# Altium footprint library SOARFootprints.PcbLib: 56 footprints (part 3 of 4)
Each footprint in its own frame and in the unit in brackets; x right, y up, seen from the top. Pads: shape width x height; smd on the part's side, far side on the other; paste and mask are expansions set on the pad; w line width, h text height; cw(c..) or ccw(c..) is an arc to the next point about the centre after c.
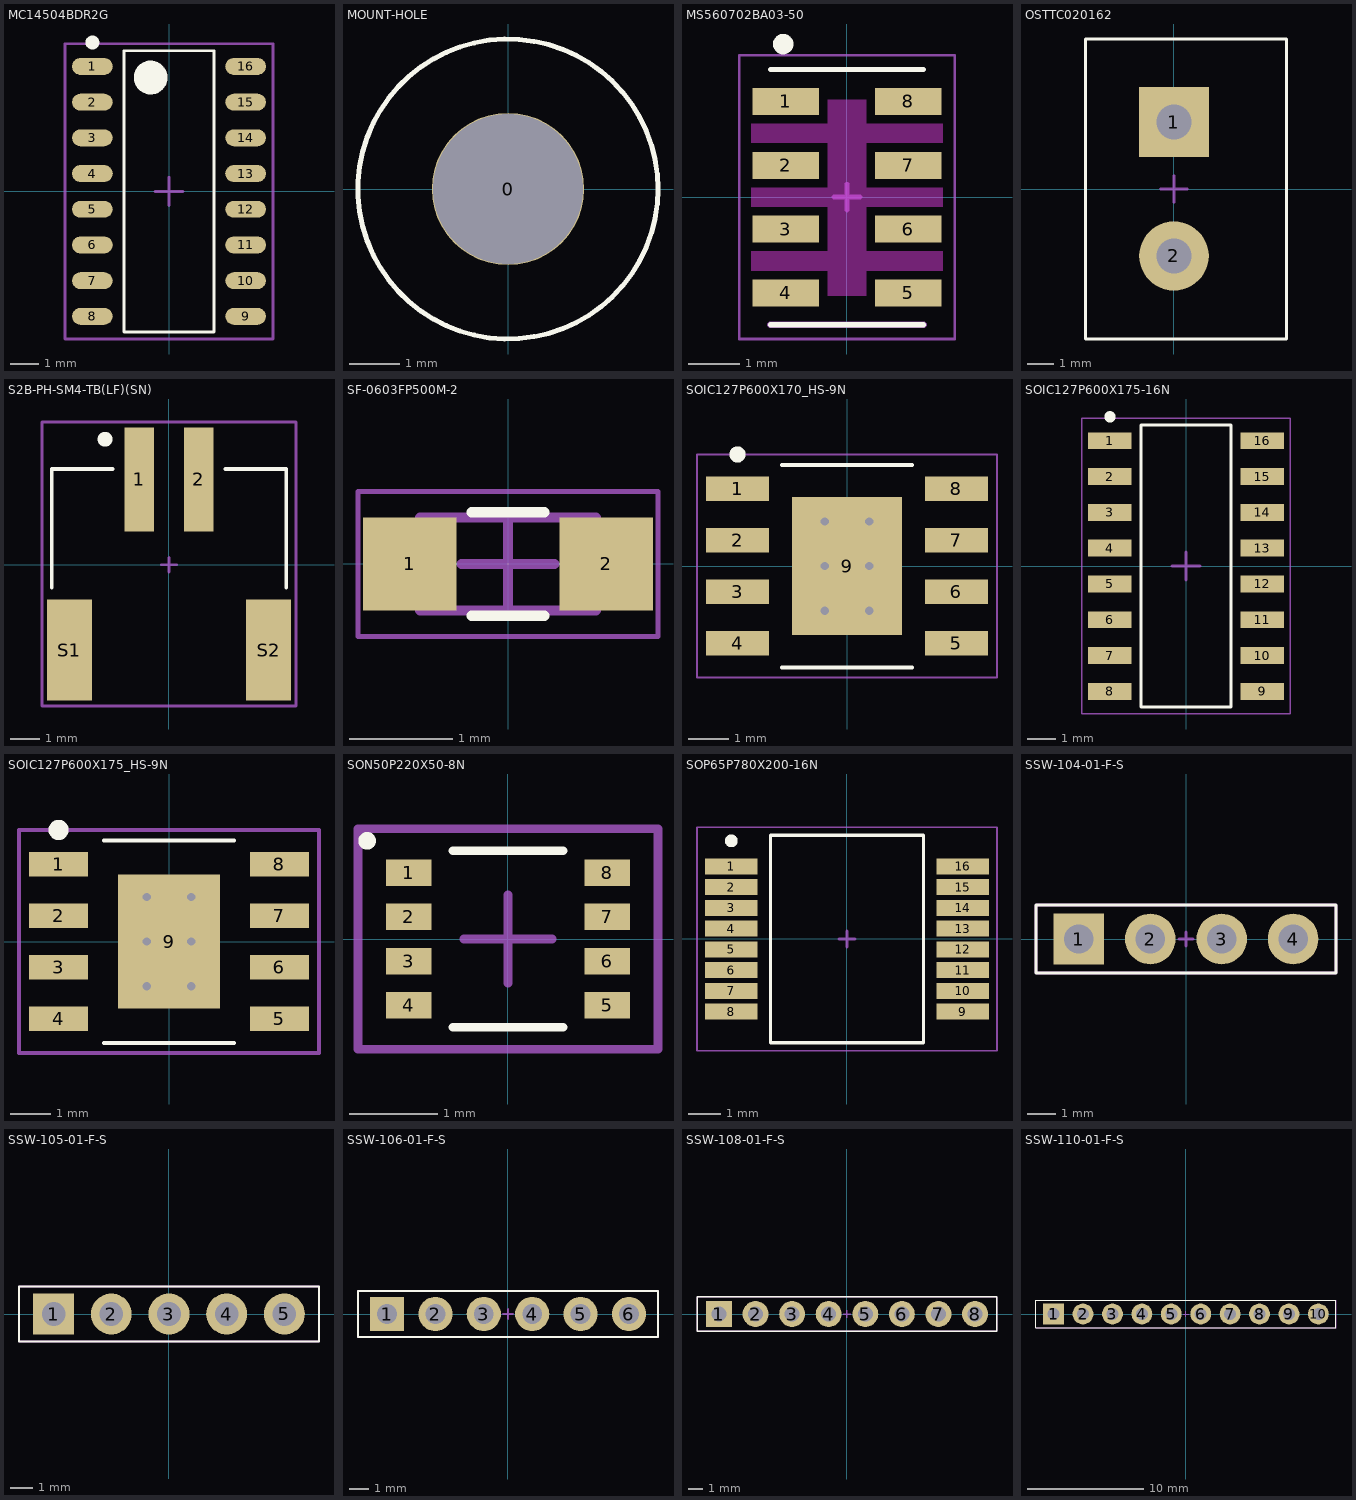
[diagram p2: the footprints below, top view; thin cyan lines are the x and y axes]

## MC14504BDR2G [mm] "SOIC, 16-Leads, Body 9.90x3.90mm, Pitch 1.27mm, IPC Medium Density"
height 1.75
pads (16):
  oval 1.45x0.6 smd: 1(-2.725,4.445) 2(-2.725,3.175) 3(-2.725,1.905) 4(-2.725,0.635) 5(-2.725,-0.635) 6(-2.725,-1.905) 7(-2.725,-3.175) 8(-2.725,-4.445) 9(2.725,-4.445) 10(2.725,-3.175) 11(2.725,-1.905) 12(2.725,-0.635) 13(2.725,0.635) 14(2.725,1.905) 15(2.725,3.175) 16(2.725,4.445)
Top Overlay:
  circle w0.25: c-2.725,5.295 r0.125
  circle w0.6: c-0.65,4.05 r0.3
  lines w0.1: -1.6,-5 -1.6,5 1.6,5 1.6,-5 -1.6,-5
Top Courtyard (Mech15):
  lines w0.1: -0.5,0 0.5,0 ; 0,-0.5 0,0.5 ; -3.7,-5.25 -3.7,5.25 3.7,5.25 3.7,-5.25 -3.7,-5.25
3D body "MC14504BDR2G.step": height 1.75, standoff 0, extent -3,-5 3,5

## MOUNT-HOLE [mil] "#4, 0.116in"
pads (1):
  round 120 hole 118 unplated mask+1.97: 0(0,0)
Top Overlay:
  circle w3.94: c0,0 r118.11
3D body: height 10, standoff -338.58, extent 0,127.95 0,127.95

## MS560702BA03-50 [mm]
pads (8):
  rect 1.31x0.53 smd mask+0.05: 1(-1.2,1.875) 2(-1.2,0.625) 3(-1.2,-0.625) 4(-1.2,-1.875) 5(1.2,-1.875) 6(1.2,-0.625) 7(1.2,0.625) 8(1.2,1.875)
Top Overlay:
  circle w0.2: c-1.25,3 r0.1
  lines w0.1: -1.5,-2.5 1.5,-2.5 ; -1.5,2.5 1.5,2.5
Keep-Out Layer:
  region: -0.375,1.905 0.381,1.905 0.381,-1.934 -0.375,-1.934
  region: -1.877,-1.062 1.875,-1.062 1.875,-1.439 -1.877,-1.439
  region: -1.876,0.188 1.875,0.188 1.875,-0.188 -1.876,-0.188
  region: -1.877,1.438 1.875,1.438 1.875,1.063 -1.877,1.063
Top Component Outline:
  lines w0.05: -2.11,-2.78 -2.11,2.78 2.11,2.78 2.11,-2.78 -2.11,-2.78
  lines w0.1: -0.25,0 0.25,0 ; 0,-0.25 0,0.25
  lines w0.127: -1.5,-2.5 1.5,-2.5
3D body "MS561101BA03-50--3DModel-STEP-56544.STEP": height 1, standoff 0, extent -1.5,-2.5 1.5,2.5

## OSTTC020162 [mm]
pads (2):
  rect 2.6x2.6 hole 1.3: 1(0,2.5)
  round 2.6 hole 1.3: 2(0,-2.5)
Top Overlay:
  lines w0.1: -3.3,-5.6 4.2,-5.6 4.2,5.6 0,5.6 -3.3,5.6 -3.3,-5.6
Top Component Outline:
  lines w0.1: -0.5,0 0.5,0 ; 0,-0.5 0,0.5
3D body: height 10, standoff 0, extent -3.25,-5.5 4.25,5.5

## S2B-PH-SM4-TB(LF)(SN) [mm] "CONN HEADER SMD R/A 2POS 2MM"
height 5.5
pads (4):
  rect 1x3.5 smd: 1(-1,2.875) 2(1,2.875)
  rect 1.5x3.4 smd: S1(-3.35,-2.875) S2(3.35,-2.875)
Top Overlay:
  circle w0.3: c-2.15,4.225 r0.1
  circle w0.3: c-2.15,4.225 r0.1
  circle w0.3: c-2.15,4.225 r0.1
  lines w0.127: -3.95,-0.775 -3.95,3.225 -1.9,3.225 ; 1.9,3.225 3.95,3.225 3.95,-0.775
Top Component Outline:
  lines w0.1: -0.25,0 0.25,0 ; 0,-0.25 0,0.25 ; -4.275,-4.75 4.275,-4.75 4.275,4.8 -4.275,4.8 -4.275,-4.75
3D body "S2B-PH-SM4-TB(LF)(SN)--3DModel-STEP-56544.STEP": height 5.6, standoff 0, extent -3.95,-4.325 3.95,4.275

## SF-0603FP500M-2 [mm] "FUSE BOARD MOUNT 5A 32VDC 0603"
height 0.18
pads (2):
  rect 0.9x0.9 smd mask+0.05: 1(-0.95,0) 2(0.95,0)
Top Overlay:
  lines w0.1: -0.35,-0.5 0.35,-0.5 ; -0.35,0.5 0.35,0.5
Top Component Outline:
  lines w0.05: -1.45,-0.7 -1.45,0.7 1.45,0.7 1.45,-0.7 -1.45,-0.7
  lines w0.1: -0.45,0 0.45,0 ; 0,-0.45 0,0.45 ; -0.85,-0.45 0.85,-0.45 0.85,0.45 -0.85,0.45 -0.85,-0.45
3D body "SF-0603FPxxxM.stp": height 0.9, standoff 0, extent -0.8,-0.45 0.8,0.45

## SOIC127P600X170_HS-9N [mm] "SOIC, 8-Leads, Body 4.90x3.90mm, Pitch 1.27mm, Thermal Pad 3.40x2.71mm, IPC Medium Density"
height 1.7
pads (9):
  rect 1.55x0.6 smd: 1(-2.7,1.905) 2(-2.7,0.635) 3(-2.7,-0.635) 4(-2.7,-1.905) 5(2.7,-1.905) 6(2.7,-0.635) 7(2.7,0.635) 8(2.7,1.905)
  rect 2.71x3.4 smd: 9(0,0)
via 0.55,-1.1 diameter 0.5 hole 0.2
via -0.55,-1.1 diameter 0.5 hole 0.2
via 0.55,0 diameter 0.5 hole 0.2
via -0.55,0 diameter 0.5 hole 0.2
via 0.55,1.1 diameter 0.5 hole 0.2
via -0.55,1.1 diameter 0.5 hole 0.2
Top Overlay:
  circle w0.2: c-2.7,2.755 r0.1
  lines w0.1: -1.6,-2.5 1.6,-2.5 ; -1.6,2.5 1.6,2.5
Top Component Outline:
  lines w0.05: -3.7,-2.75 -3.7,2.75 3.7,2.75 3.7,-2.75 -3.7,-2.75
  lines w0.1: -0.25,0 0.25,0 ; 0,-0.25 0,0.25
3D body "SOIC127P600X170_HS-9N.step": height 1.7, standoff 0, extent -3,-2.5 3,2.5

## SOIC127P600X175-16N [mm] "SOIC, 16-Leads, Body 9.90x3.90mm, Pitch 1.27mm, IPC Medium Density"
height 1.75
pads (16):
  rect 1.55x0.6 smd: 1(-2.7,4.445) 2(-2.7,3.175) 3(-2.7,1.905) 4(-2.7,0.635) 5(-2.7,-0.635) 6(-2.7,-1.905) 7(-2.7,-3.175) 8(-2.7,-4.445) 9(2.7,-4.445) 10(2.7,-3.175) 11(2.7,-1.905) 12(2.7,-0.635) 13(2.7,0.635) 14(2.7,1.905) 15(2.7,3.175) 16(2.7,4.445)
Top Overlay:
  circle w0.2: c-2.7,5.295 r0.1
  lines w0.1: -1.6,-5 -1.6,5 1.6,5 1.6,-5 -1.6,-5
Top Component Outline:
  lines w0.05: -3.7,-5.25 -3.7,5.25 3.7,5.25 3.7,-5.25 -3.7,-5.25
  lines w0.1: -0.5,0 0.5,0 ; 0,-0.5 0,0.5
3D body "SOIC127P600X175-16N.step": height 1.75, standoff 0, extent -3,-5 3,5

## SOIC127P600X175_HS-9N [mm] "SOIC, 8-Leads, Body 4.90x3.90mm, Pitch 1.27mm, Thermal Pad 3.30x2.51mm, IPC Medium Density"
height 1.75
pads (9):
  rect 1.45x0.6 smd: 1(-2.725,1.905) 2(-2.725,0.635) 3(-2.725,-0.635) 4(-2.725,-1.905) 5(2.725,-1.905) 6(2.725,-0.635) 7(2.725,0.635) 8(2.725,1.905)
  rect 2.51x3.3 smd: 9(0,0)
via 0.55,-1.1 diameter 0.5 hole 0.2
via -0.55,-1.1 diameter 0.5 hole 0.2
via 0.55,0 diameter 0.5 hole 0.2
via -0.55,0 diameter 0.5 hole 0.2
via 0.55,1.1 diameter 0.5 hole 0.2
via -0.55,1.1 diameter 0.5 hole 0.2
Top Overlay:
  circle w0.25: c-2.725,2.755 r0.125
  lines w0.1: -1.6,-2.5 1.6,-2.5 ; -1.6,2.5 1.6,2.5
Top Courtyard (Mech15):
  lines w0.1: -0.5,0 0.5,0 ; 0,-0.5 0,0.5 ; -3.7,-2.75 3.7,-2.75 3.7,2.75 -3.7,2.75 -3.7,-2.75
3D body "SOIC127P600X175_HS-9N.step": height 1.75, standoff 0, extent -3,-2.5 3,2.5

## SON50P220X50-8N [mm] "SON, 8-Leads, Body 1.97x2.23mm, Pitch 0.50mm, IPC Medium Density"
height 0.5
pads (8):
  rect 0.52x0.3 smd mask+0.05: 1(-1.125,0.75) 2(-1.125,0.25) 3(-1.125,-0.25) 4(-1.125,-0.75) 5(1.125,-0.75) 6(1.125,-0.25) 7(1.125,0.25) 8(1.125,0.75)
Top Overlay:
  circle w0.1: c-1.597,1.112 r0.05
  lines w0.1: -0.625,-1 0.625,-1 ; -0.625,1 0.625,1
Top Component Outline:
  lines w0.1: -0.5,0 0.5,0 ; 0,-0.5 0,0.5 ; -1.7,-1.25 -1.7,1.25 1.7,1.25 1.7,-1.25 -1.7,-1.25
3D body "SON50P220X50-8N.step": height 0.5, standoff 0, extent -1.136,-1 1.136,1

## SOP65P780X200-16N [mm] "SOP, 16-Leads, Body 6.20x5.30mm, Pitch 0.65mm, IPC Medium Density"
height 2
pads (16):
  rect 1.65x0.5 smd mask+0.05: 1(-3.625,2.275) 2(-3.625,1.625) 3(-3.625,0.975) 4(-3.625,0.325) 5(-3.625,-0.325) 6(-3.625,-0.975) 7(-3.625,-1.625) 8(-3.625,-2.275) 9(3.625,-2.275) 10(3.625,-1.625) 11(3.625,-0.975) 12(3.625,-0.325) 13(3.625,0.325) 14(3.625,0.975) 15(3.625,1.625) 16(3.625,2.275)
Top Overlay:
  circle w0.2: c-3.625,3.075 r0.1
  lines w0.1: -2.4,-3.25 2.4,-3.25 2.4,3.25 -2.4,3.25 -2.4,-3.25
Top Component Outline:
  lines w0.05: -4.7,-3.5 4.7,-3.5 4.7,3.5 -4.7,3.5 -4.7,-3.5
  lines w0.1: -0.25,0 0.25,0 ; 0,-0.25 0,0.25
3D body "SOP65P780X200-16N.step": height 2, standoff 0, extent -3.9,-3.25 3.9,3.25

## SSW-104-01-F-S [mm] "CONN RCPT 4POS 0.1 GOLD PCB"
height 11.15
pads (4):
  rect 1.8x1.8 hole 1.04 mask+0.05: 1(-3.81,0)
  round 1.8 hole 1.04 mask+0.05: 2(-1.27,0) 3(1.27,0) 4(3.81,0)
Top Overlay:
  lines w0.1: -5.334,-1.206 -5.334,1.207 5.334,1.207 5.334,-1.206 -5.334,-1.206
Top Component Outline:
  lines w0.1: -0.254,0 0.254,0 ; 0,-0.254 0,0.254 ; -5.334,-1.206 -5.334,1.207 5.334,1.207 5.334,-1.206 -5.334,-1.206
3D body "SSW-104-01-F-S.stp": height 8.56, standoff -2.59, extent -5.334,-1.206 5.334,1.207

## SSW-105-01-F-S [mm] "CONN RCPT 5POS 0.1 GOLD PCB"
height 11.15
pads (5):
  rect 1.8x1.8 hole 1.04 mask+0.05: 1(-5.08,0)
  round 1.8 hole 1.04 mask+0.05: 2(-2.54,0) 3(0,0) 4(2.54,0) 5(5.08,0)
Top Overlay:
  lines w0.1: -6.604,-1.206 6.604,-1.206 6.604,1.207 -6.604,1.207 -6.604,-1.206
Top Component Outline:
  lines w0.1: -0.254,0 0.254,0 ; 0,-0.254 0,0.254 ; -6.604,-1.206 6.604,-1.206 6.604,1.207 -6.604,1.207 -6.604,-1.206
3D body "SSW-105-01-F-S.stp": height 8.56, standoff -2.59, extent -6.604,-1.206 6.604,1.207

## SSW-106-01-F-S [mm] "CONN RCPT 6POS 0.1 GOLD PCB"
height 11.15
pads (6):
  rect 1.8x1.8 hole 1.04 mask+0.05: 1(-6.35,0)
  round 1.8 hole 1.04 mask+0.05: 2(-3.81,0) 3(-1.27,0) 4(1.27,0) 5(3.81,0) 6(6.35,0)
Top Overlay:
  lines w0.1: -7.874,-1.206 -7.874,1.207 7.874,1.207 7.874,-1.206 -7.874,-1.206
Top Component Outline:
  lines w0.1: -0.254,0 0.254,0 ; 0,-0.254 0,0.254 ; -7.874,-1.206 -7.874,1.207 7.874,1.207 7.874,-1.206 -7.874,-1.206
3D body "SSW-106-01-F-S.stp": height 8.56, standoff -2.59, extent -7.874,-1.206 7.874,1.207

## SSW-108-01-F-S [mm] "CONN RCPT 8POS 0.1 GOLD PCB"
height 11.15
pads (8):
  rect 1.8x1.8 hole 1.04 mask+0.05: 1(-8.89,0)
  round 1.8 hole 1.04 mask+0.05: 2(-6.35,0) 3(-3.81,0) 4(-1.27,0) 5(1.27,0) 6(3.81,0) 7(6.35,0) 8(8.89,0)
Top Overlay:
  lines w0.1: -10.414,-1.206 -10.414,1.207 10.414,1.207 10.414,-1.206 -10.414,-1.206
Top Component Outline:
  lines w0.1: -0.254,0 0.254,0 ; 0,-0.254 0,0.254 ; -10.414,-1.206 -10.414,1.207 10.414,1.207 10.414,-1.206 -10.414,-1.206
3D body "SSW-108-01-F-S.stp": height 8.56, standoff -2.59, extent -10.414,-1.206 10.414,1.207

## SSW-110-01-F-S [mm] "CONN RCPT 10POS 0.1 GOLD PCB"
height 11.15
pads (10):
  rect 1.8x1.8 hole 1.04 mask+0.05: 1(-11.43,0)
  round 1.8 hole 1.04 mask+0.05: 2(-8.89,0) 3(-6.35,0) 4(-3.81,0) 5(-1.27,0) 6(1.27,0) 7(3.81,0) 8(6.35,0) 9(8.89,0) 10(11.43,0)
Top Overlay:
  lines w0.1: -12.954,-1.206 12.954,-1.206 12.954,1.207 -12.954,1.207 -12.954,-1.206
Top Component Outline:
  lines w0.1: -0.254,0 0.254,0 ; 0,-0.254 0,0.254 ; -12.954,-1.206 12.954,-1.206 12.954,1.207 -12.954,1.207 -12.954,-1.206
3D body "SSW-110-01-F-S.stp": height 8.56, standoff -2.59, extent -12.954,-1.206 12.954,1.207